# EAGLE library part TXB0102 (library pixhawk2-updated)
2-BIT BIDIRECTIONAL VOLTAGE-LEVEL TRANSLATOR WITH AUTO DIRECTION SENSING AND ±15-kV ESD PROTECTION
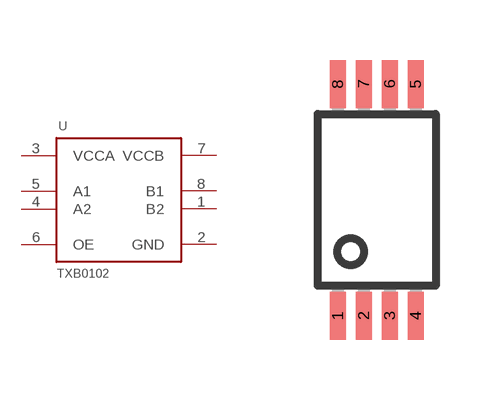
[diagram p9: symbol with the pads of R-PDSO-G08; footprint R-PDSO-G08]

Designator prefix U

## TXB0102  [R-PDSO-G08]
1  B2
2  GND  sup
3  VCCA  sup
4  A2
5  A1
6  OE  in
7  VCCB  sup
8  B1

## Footprint R-PDSO-G08 (pad centres in mm)
PLASTIC SMALL-OUTLINE PACKAGE, SO 8 JEDEC MO-153 Source: www.ti.com/.. slvs087l.pdf
smd 0.4 x 1.2: 1 -0.975,-2.9; 2 -0.325,-2.9; 3 0.325,-2.9; 4 0.975,-2.9; 5 0.975,2.9; 6 0.325,2.9; 7 -0.325,2.9; 8 -0.975,2.9